# Altium footprint library XH2.PcbLib: 1 footprints
Each footprint in its own frame and in the unit in brackets; x right, y up, seen from the top. Pads: shape width x height; smd on the part's side, far side on the other; paste and mask are expansions set on the pad; w line width, h text height; cw(c..) or ccw(c..) is an arc to the next point about the centre after c.
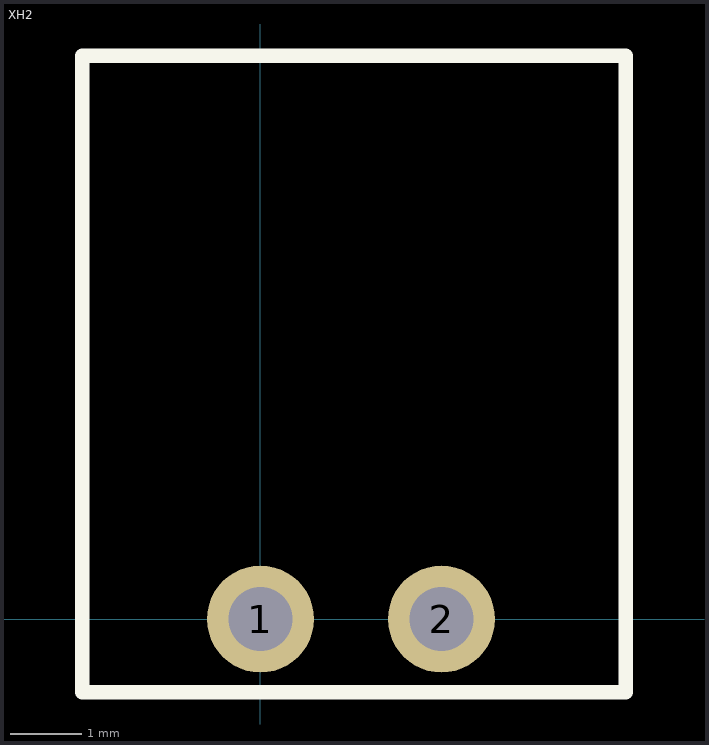
[diagram p0: the footprint, top view; thin cyan lines are the x and y axes]

## XH2 [mm]
pads (2):
  round 1.5 hole 0.9: 1(0,0) 2(2.54,0)
Top Overlay:
  lines w0.2: -2.5,-1.025 5.125,-1.025 5.125,7.9 -2.5,7.9 -2.5,-1.025
3D body "JST - XH - Thru (R) - 2Pin - 2.54mm.stp": height 5.84, standoff -3.38, extent -2.332,-0.328 4.882,7.709